# Altium footprint library QFN-40_5x7.PcbLib: 1 footprints
Each footprint in its own frame and in the unit in brackets; x right, y up, seen from the top. Pads: shape width x height; smd on the part's side, far side on the other; paste and mask are expansions set on the pad; w line width, h text height; cw(c..) or ccw(c..) is an arc to the next point about the centre after c.
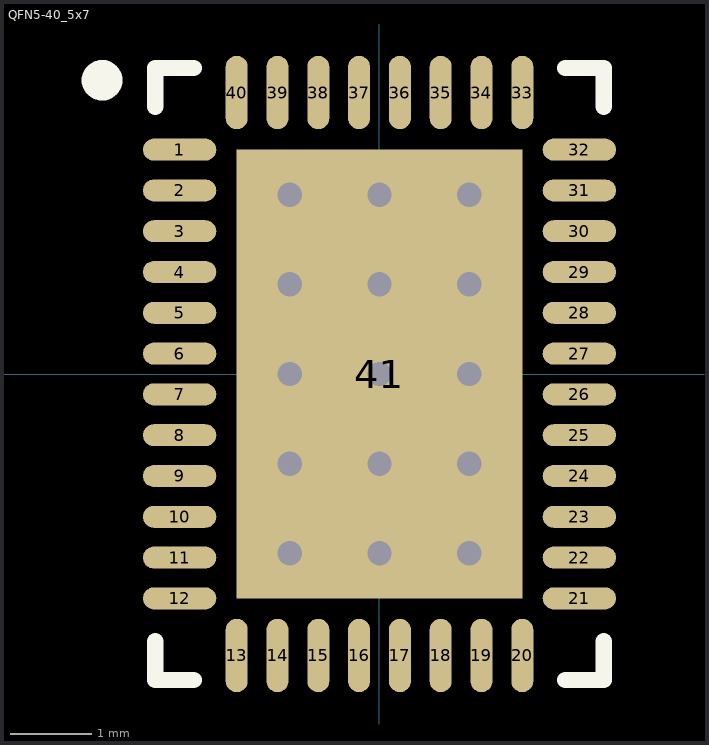
[diagram p0: the footprint, top view; thin cyan lines are the x and y axes]

## QFN5-40_5x7 [mm] "QFN, 40-Leads, Body 5,00x7,00mm, Pitch 0,50mm, Thermal Pad 3,50x5,50mm, IPC Medium Density"
height 0.75
pads (41):
  oval 0.9x0.27 smd: 1(-2.45,2.75) 2(-2.45,2.25) 3(-2.45,1.75) 4(-2.45,1.25) 5(-2.45,0.75) 6(-2.45,0.25) 7(-2.45,-0.25) 8(-2.45,-0.75) 9(-2.45,-1.25) 10(-2.45,-1.75) 11(-2.45,-2.25) 12(-2.45,-2.75) 21(2.45,-2.75) 22(2.45,-2.25) 23(2.45,-1.75) 24(2.45,-1.25) 25(2.45,-0.75) 26(2.45,-0.25) 27(2.45,0.25) 28(2.45,0.75) 29(2.45,1.25) 30(2.45,1.75) 31(2.45,2.25) 32(2.45,2.75)
  oval 0.27x0.9 smd: 13(-1.75,-3.45) 14(-1.25,-3.45) 15(-0.75,-3.45) 16(-0.25,-3.45) 17(0.25,-3.45) 18(0.75,-3.45) 19(1.25,-3.45) 20(1.75,-3.45) 33(1.75,3.45) 34(1.25,3.45) 35(0.75,3.45) 36(0.25,3.45) 37(-0.25,3.45) 38(-0.75,3.45) 39(-1.25,3.45) 40(-1.75,3.45)
  rect 3.5x5.5 smd: 41(0,0)
via -1.1,2.2 diameter 0.6 hole 0.3
via 0,2.2 diameter 0.6 hole 0.3
via 1.1,2.2 diameter 0.6 hole 0.3
via -1.1,1.1 diameter 0.6 hole 0.3
via 0,1.1 diameter 0.6 hole 0.3
via 1.1,1.1 diameter 0.6 hole 0.3
via -1.1,0 diameter 0.6 hole 0.3
via 0,0 diameter 0.6 hole 0.3
via 1.1,0 diameter 0.6 hole 0.3
via -1.1,-1.1 diameter 0.6 hole 0.3
via 0,-1.1 diameter 0.6 hole 0.3
via 1.1,-1.1 diameter 0.6 hole 0.3
via -1.1,-2.2 diameter 0.6 hole 0.3
via 0,-2.2 diameter 0.6 hole 0.3
via 1.1,-2.2 diameter 0.6 hole 0.3
Top Overlay:
  circle w0.25: c-3.4,3.6 r0.125
  lines w0.2: -2.75,-3.275 -2.75,-3.75 -2.275,-3.75 ; -2.75,3.275 -2.75,3.75 -2.275,3.75 ; 2.275,-3.75 2.75,-3.75 2.75,-3.275 ; 2.275,3.75 2.75,3.75 2.75,3.275
3D body "QFN5-40_5x7.step": height 0.75, standoff 0, extent -2.6,-3.6 2.6,3.6